# Altium schematic symbol library ESP32P4C6模组封装.SchLib: 2 symbols
Pins are listed as number, name and electrical type; pins without a type are passive.

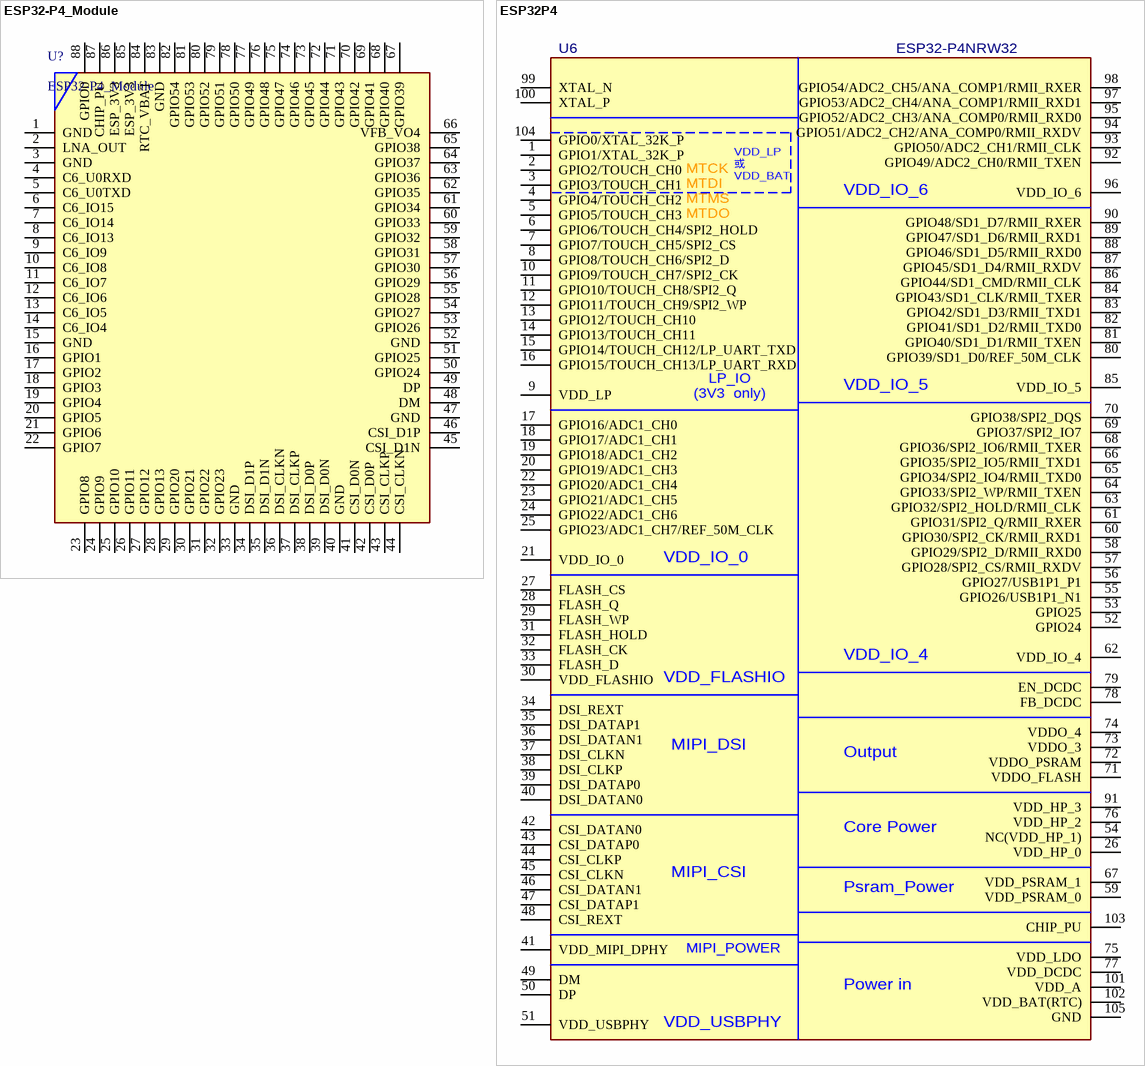
[diagram p0: symbols ESP32-P4_Module to ESP32P4]

## ESP32-P4_Module
designator U?
pins: 1 GND, 2 LNA_OUT, 3 GND, 4 C6_U0RXD, 5 C6_U0TXD, 6 C6_IO15, 7 C6_IO14, 8 C6_IO13, 9 C6_IO9, 10 C6_IO8, 11 C6_IO7, 12 C6_IO6, 13 C6_IO5, 14 C6_IO4, 15 GND, 16 GPIO1, 17 GPIO2, 18 GPIO3, 19 GPIO4, 20 GPIO5, 21 GPIO6, 22 GPIO7, 23 GPIO8, 24 GPIO9, 25 GPIO10, 26 GPIO11, 27 GPIO12, 28 GPIO13, 29 GPIO20, 30 GPIO21, 31 GPIO22, 32 GPIO23, 33 GND, 34 DSI_D1P, 35 DSI_D1N, 36 DSI_CLKN, 37 DSI_CLKP, 38 DSI_D0P, 39 DSI_D0N, 40 GND, 41 CSI_D0N, 42 CSI_D0P, 43 CSI_CLKP, 44 CSI_CLKN, 45 CSI_D1N, 46 CSI_D1P, 47 GND, 48 DM, 49 DP, 50 GPIO24, 51 GPIO25, 52 GND, 53 GPIO26, 54 GPIO27, 55 GPIO28, 56 GPIO29, 57 GPIO30, 58 GPIO31, 59 GPIO32, 60 GPIO33, 61 GPIO34, 62 GPIO35, 63 GPIO36, 64 GPIO37, 65 GPIO38, 66 VFB_VO4, 67 GPIO39, 68 GPIO40, 69 GPIO41, 70 GPIO42, 71 GPIO43, 72 GPIO44, 73 GPIO45, 74 GPIO46, 75 GPIO47, 76 GPIO48, 77 GPIO49, 78 GPIO50, 79 GPIO51, 80 GPIO52, 81 GPIO53, 82 GPIO54, 83 GND, 84 RTC_VBAT, 85 ESP_3V3, 86 ESP_3V3, 87 CHIP_PU, 88 GPIO0

## ESP32P4
designator U6, comment ESP32-P4NRW32
footprint QFN-104_L10.0-W10.0-P0.35-TL-EP8.5-ESP32-P4
pins: 1 GPIO1/XTAL_32K_P, 2 GPIO2/TOUCH_CH0, 3 GPIO3/TOUCH_CH1, 4 GPIO4/TOUCH_CH2, 5 GPIO5/TOUCH_CH3, 6 GPIO6/TOUCH_CH4/SPI2_HOLD, 7 GPIO7/TOUCH_CH5/SPI2_CS, 8 GPIO8/TOUCH_CH6/SPI2_D, 9 VDD_LP, 10 GPIO9/TOUCH_CH7/SPI2_CK, 11 GPIO10/TOUCH_CH8/SPI2_Q, 12 GPIO11/TOUCH_CH9/SPI2_WP, 13 GPIO12/TOUCH_CH10, 14 GPIO13/TOUCH_CH11, 15 GPIO14/TOUCH_CH12/LP_UART_TXD, 16 GPIO15/TOUCH_CH13/LP_UART_RXD, 17 GPIO16/ADC1_CH0, 18 GPIO17/ADC1_CH1, 19 GPIO18/ADC1_CH2, 20 GPIO19/ADC1_CH3, 21 VDD_IO_0, 22 GPIO20/ADC1_CH4, 23 GPIO21/ADC1_CH5, 24 GPIO22/ADC1_CH6, 25 GPIO23/ADC1_CH7/REF_50M_CLK, 26 VDD_HP_0, 27 FLASH_CS, 28 FLASH_Q, 29 FLASH_WP, 30 VDD_FLASHIO, 31 FLASH_HOLD, 32 FLASH_CK, 33 FLASH_D, 34 DSI_REXT, 35 DSI_DATAP1, 36 DSI_DATAN1, 37 DSI_CLKN, 38 DSI_CLKP, 39 DSI_DATAP0, 40 DSI_DATAN0, 41 VDD_MIPI_DPHY, 42 CSI_DATAN0, 43 CSI_DATAP0, 44 CSI_CLKP, 45 CSI_CLKN, 46 CSI_DATAN1, 47 CSI_DATAP1, 48 CSI_REXT, 49 DM, 50 DP, 51 VDD_USBPHY, 52 GPIO24, 53 GPIO25, 54 NC(VDD_HP_1), 55 GPIO26/USB1P1_N1, 56 GPIO27/USB1P1_P1, 57 GPIO28/SPI2_CS/RMII_RXDV, 58 GPIO29/SPI2_D/RMII_RXD0, 59 VDD_PSRAM_0, 60 GPIO30/SPI2_CK/RMII_RXD1, 61 GPIO31/SPI2_Q/RMII_RXER, 62 VDD_IO_4, 63 GPIO32/SPI2_HOLD/RMII_CLK, 64 GPIO33/SPI2_WP/RMII_TXEN, 65 GPIO34/SPI2_IO4/RMII_TXD0, 66 GPIO35/SPI2_IO5/RMII_TXD1, 67 VDD_PSRAM_1, 68 GPIO36/SPI2_IO6/RMII_TXER, 69 GPIO37/SPI2_IO7, 70 GPIO38/SPI2_DQS, 71 VDDO_FLASH, 72 VDDO_PSRAM, 73 VDDO_3, 74 VDDO_4, 75 VDD_LDO, 76 VDD_HP_2, 77 VDD_DCDC, 78 FB_DCDC, 79 EN_DCDC, 80 GPIO39/SD1_D0/REF_50M_CLK, 81 GPIO40/SD1_D1/RMII_TXEN, 82 GPIO41/SD1_D2/RMII_TXD0, 83 GPIO42/SD1_D3/RMII_TXD1, 84 GPIO43/SD1_CLK/RMII_TXER, 85 VDD_IO_5, 86 GPIO44/SD1_CMD/RMII_CLK, 87 GPIO45/SD1_D4/RMII_RXDV, 88 GPIO46/SD1_D5/RMII_RXD0, 89 GPIO47/SD1_D6/RMII_RXD1, 90 GPIO48/SD1_D7/RMII_RXER, 91 VDD_HP_3, 92 GPIO49/ADC2_CH0/RMII_TXEN, 93 GPIO50/ADC2_CH1/RMII_CLK, 94 GPIO51/ADC2_CH2/ANA_COMP0/RMII_RXDV, 95 GPIO52/ADC2_CH3/ANA_COMP0/RMII_RXD0, 96 VDD_IO_6, 97 GPIO53/ADC2_CH4/ANA_COMP1/RMII_RXD1, 98 GPIO54/ADC2_CH5/ANA_COMP1/RMII_RXER, 99 XTAL_N, 100 XTAL_P, 101 VDD_A, 102 VDD_BAT(RTC), 103 CHIP_PU, 104 GPIO0/XTAL_32K_P, 105 GND
text: MTCK; VDD_LP或VDD_BAT电源域; MTDI; MTMS; MTDO; LP_IO; (3V3  only); MIPI_DSI; Output; Core Power; MIPI_CSI; Psram_Power; MIPI_POWER; Power in